# EAGLE library part RJ45-1WIRE (library common)
CORCOM Modular RJ Jacks No Shield Source: www.tycoelectronics.com .. ENG_DS_1654001_1099_RJ_L_0507.pdf
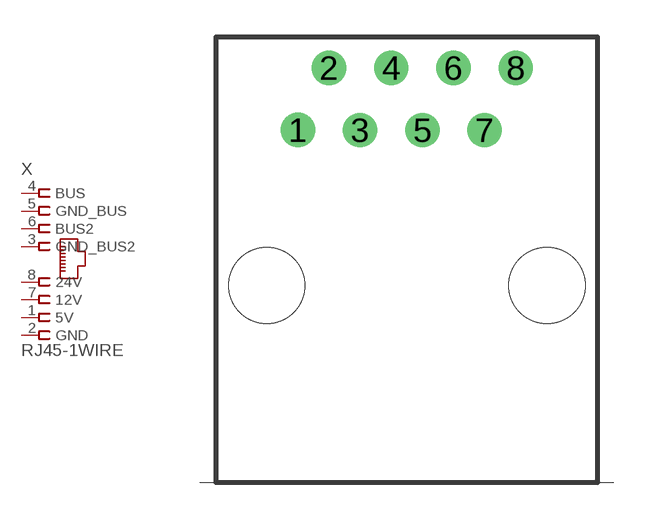
[diagram p6: symbol with the pads of RJ45-NO-SHIELD; footprint RJ45-NO-SHIELD]

Designator prefix X

## RJ45-1WIRE-8L-B (MF: TYCO ELECTRONICS; MPN: RJ45-8L-B; OC_FARNELL: 1279843; OC_NEWARK: 52K4445)  [RJ45-NO-SHIELD]
1  5V  pwr
2  GND  pas
3  GND_BUS2  pas
4  BUS  pas
5  GND_BUS  pas
6  BUS2  pas
7  12V  pas
8  24V  pas

## Footprint RJ45-NO-SHIELD (pad centres in mm)
RJ45 Low Profile No Shield FCI 54602
drill 0.9 pad 1.4: 1 -4.445,6.35
drill 0.8 pad 1.4: 2 -3.175,8.89; 3 -1.905,6.35; 4 -0.635,8.89; 5 0.635,6.35; 6 1.905,8.89; 7 3.175,6.35; 8 4.445,8.89
hole 3.1 at -5.715,0
hole 3.1 at 5.715,0